# EAGLE library part WEMOS-D1-MINI (library aqm-parts)
WeMos.cc D1 mini ESP8266 module
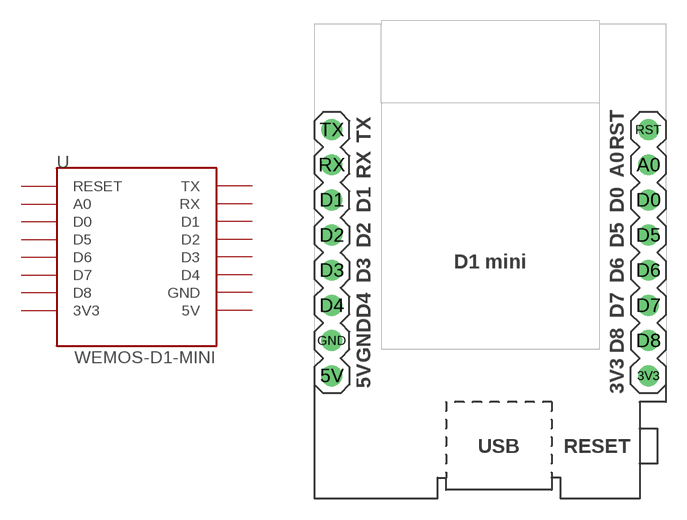
[diagram p2: symbol with the pads of WEMOS-D1-MINI; footprint WEMOS-D1-MINI]

Designator prefix U

## WEMOS-D1-MINI  [WEMOS-D1-MINI]
3V3  3V3
5V  5V
A0  A0
D0  D0
D1  D1
D2  D2
D3  D3
D4  D4
D5  D5
D6  D6
D7  D7
D8  D8
GND  GND
RST  RESET
RX  RX
TX  TX

## Footprint WEMOS-D1-MINI (pad centres in mm)
WEMOS D1 mini: Mini Wi-Fi Board based on ESP-8266 device
drill 1: 3V3 11.43,-8.255; 5V -11.43,-8.255; A0 11.43,6.985; D0 11.43,4.445; D1 -11.43,4.445; D2 -11.43,1.905; D3 -11.43,-0.635; D4 -11.43,-3.175; D5 11.43,1.905; D6 11.43,-0.635; D7 11.43,-3.175; D8 11.43,-5.715; GND -11.43,-5.715; RST 11.43,9.525; RX -11.43,6.985; TX -11.43,9.525